# Altium schematic symbol library CUBIC_FC.SchLib: 143 symbols (part 8 of 8)
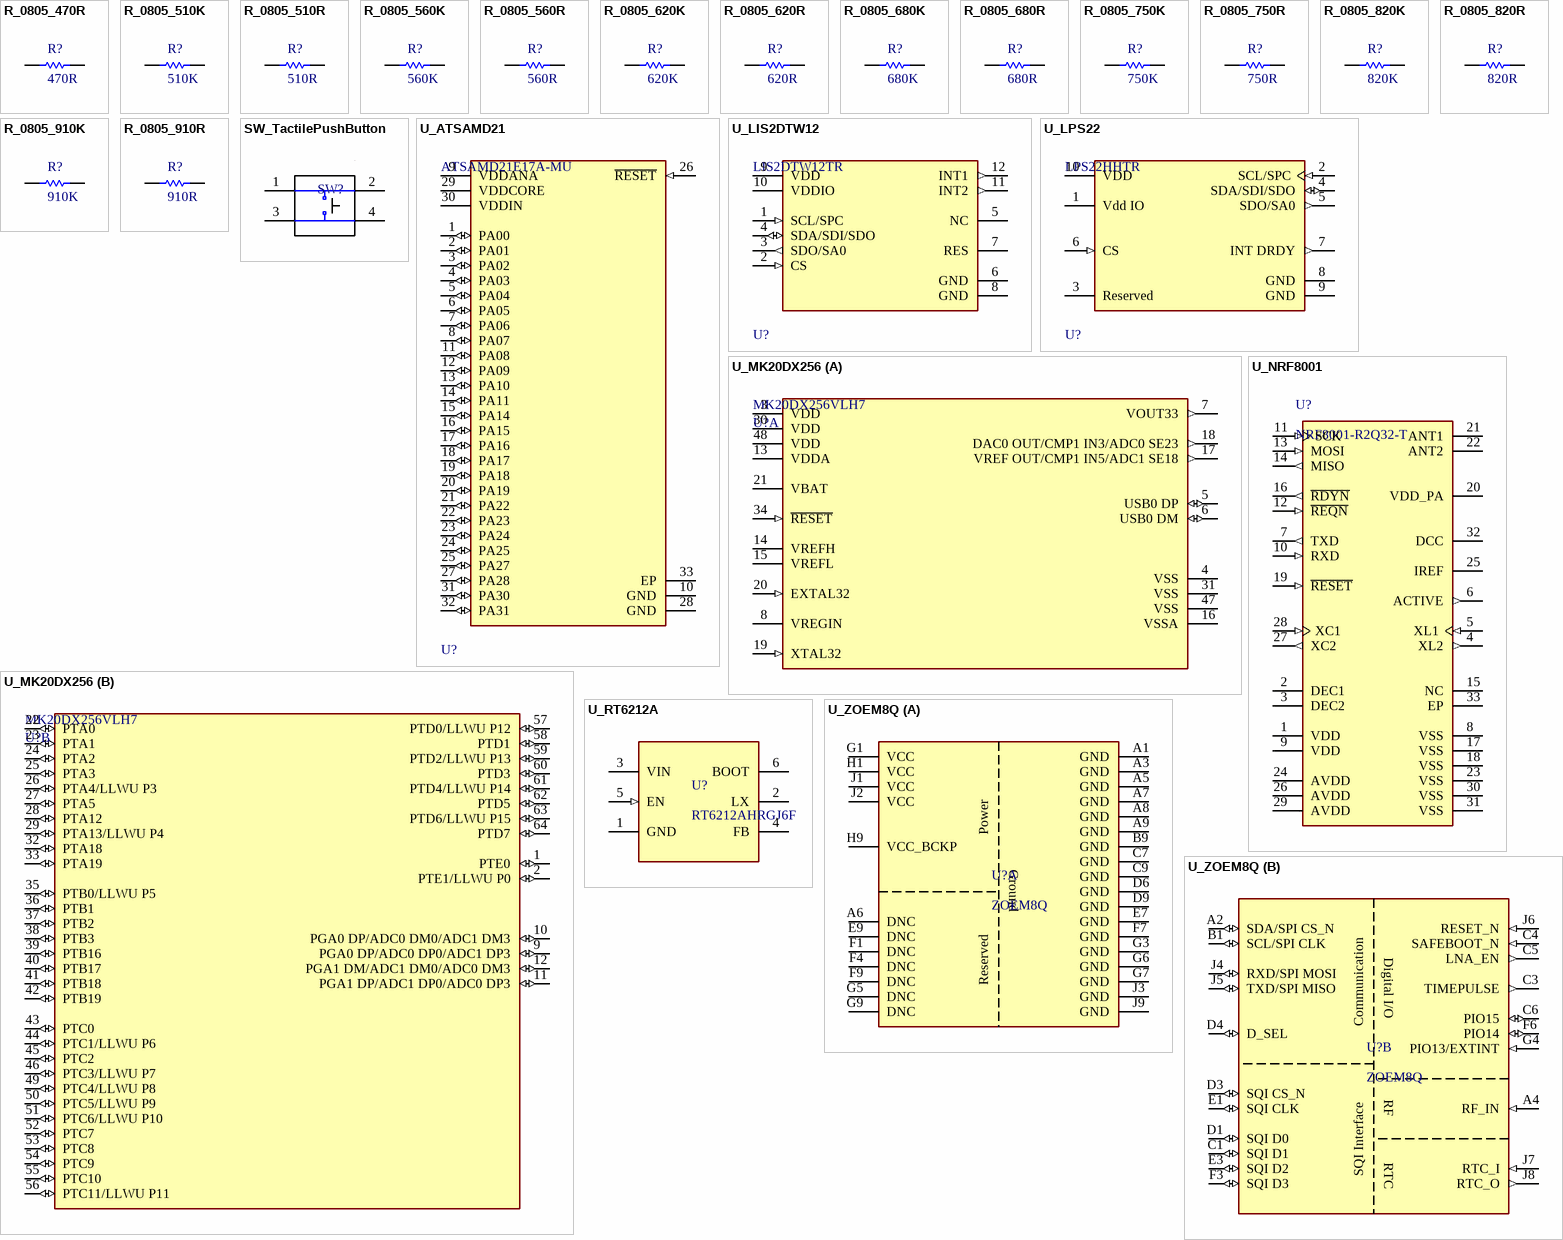
[diagram p10: symbols R_0805_470R to U_ZOEM8Q]

## R_0805_820R
designator R?, comment 820R
Fixed Resistor, Metal Glaze/thick Film, 0.125W, 820ohm, 150V, 1% +/-Tol, 100ppm/Cel, Surface Mount, 0805; Manufacturer: Panasonic; Manufacturer Part Number: ERJ-6ENF8200V; Power: 125mW; Rated Temperature: 70°C; Temperature Coefficient: 100ppm/°C; Package Height: 0.6mm; Package Length: 2mm; Package Width: 1.25mm; Reference Standard: AEC-Q200; Supplier: Digikey; Supplier Part Number: P820CCT-ND; RoHS: Yes; Category: Chip SMD Resistors; Stock: 90683; Pricing: 1=0.11, 10=0.053, 50=0.0344, 100=0.0292, 500=0.02058, 1000=0.01792 (USD); Mounting Technology: Surface Mount; Pins: 2; Package Shape: Rectangular; Case/Package: 0805; Terminal Finish: Nickel; Min Operating Temperature: -55°C; Max Operating Temperature: 155°C; Tolerance: 1%; JESD-609 Code: e3; Resistor Type: FIXED RESISTOR; Construction: Rectangular; Package Style: SMTMeter; Packaging: Tape and Reel; Value: 820R; Technology: METAL GLAZE/THICK FILM; Termination: Wraparound; Working Voltage: 150V; Reach SVHC Compliant: Yes; RoHS Compliant: Yes; ComponentLink1URL: https://datasheet.ciiva.com:443/pdfs/VipMasterIC/IC/PANA/PANA-S-A0009889626/PANA-S-A0009889626-1.pdf?src-supplier=IHS+Markit; ComponentLink1Description: https://datasheet.ciiva.com:443/pdfs/VipMasterIC/IC/PANA/PANA-S-A0009889626/PANA-S-A0009889626-1.pdf?src-supplier=IHS+Markit; ComponentLink2URL: https://datasheet.ciiva.com/9179/aoa0000ce2-9179833.pdf?src-supplier=Avnet; ComponentLink2Description: https://datasheet.ciiva.com/9179/aoa0000ce2-9179833.pdf?src-supplier=Avnet; ComponentLink3URL: https://datasheet.ciiva.com/24158/aoa0000ce2-24158799.pdf?src-supplier=Mouser; ComponentLink3Description: https://datasheet.ciiva.com/24158/aoa0000ce2-24158799.pdf?src-supplier=Mouser; ComponentLink4URL: https://datasheet.ciiva.com/16763/70260748-16763708.pdf?src-supplier=Allied+Electronics; ComponentLink4Description: https://datasheet.ciiva.com/16763/70260748-16763708.pdf?src-supplier=Allied+Electronics; ComponentLink5URL: https://datasheet.ciiva.com/22744/426256-22744189.pdf?src-supplier=Element14; ComponentLink5Description: https://datasheet.ciiva.com/22744/426256-22744189.pdf?src-supplier=Element14; ComponentLink6URL: https://datasheet.ciiva.com/46373/1678782-46373509.pdf?src-supplier=Element14; ComponentLink6Description: https://datasheet.ciiva.com/46373/1678782-46373509.pdf?src-supplier=Element14; ComponentLink7URL: https://datasheet.ciiva.com/46373/1678782-46373510.pdf?src-supplier=Element14; ComponentLink7Description: https://datasheet.ciiva.com/46373/1678782-46373510.pdf?src-supplier=Element14; ComponentLink8URL: https://datasheet.ciiva.com/30130/aoa0000ce2-30130843.pdf?src-supplier=Onlinecomponents.com; ComponentLink8Description: https://datasheet.ciiva.com/30130/aoa0000ce2-30130843.pdf?src-supplier=Onlinecomponents.com; ComponentLink9URL: https://datasheet.ciiva.com/22687/1678782-22687397.pdf?src-supplier=Element14; ComponentLink9Description: https://datasheet.ciiva.com/22687/1678782-22687397.pdf?src-supplier=Element14
footprint R_0805 (Chip Resistor, 2-Leads, Body 2.00x1.25mm, IPC Low Density)
pins: 1, 2

## R_0805_910K
designator R?, comment 910K
Fixed Resistor, Metal Glaze/thick Film, 0.125W, 910000ohm, 150V, 1% +/-Tol, 100ppm/Cel, Surface Mount, 0805; Manufacturer: Panasonic; Manufacturer Part Number: ERJ-6ENF9103V; Power: 125mW; Rated Temperature: 70°C; Value: 910kR; Temperature Coefficient: 100ppm/°C; Package Height: 0.6mm; Package Length: 2mm; Package Width: 1.25mm; Reference Standard: AEC-Q200; Supplier: Digikey; Supplier Part Number: P910KCCT-ND; RoHS: Yes; Category: Chip SMD Resistors; Stock: 97788; Pricing: 1=0.11, 10=0.053, 50=0.0344, 100=0.0292, 500=0.02058, 1000=0.01792 (USD); Mounting Technology: Surface Mount; Pins: 2; Package Shape: Rectangular; Case/Package: 0805; Terminal Finish: Nickel; Min Operating Temperature: -55°C; Max Operating Temperature: 155°C; Tolerance: 1%; JESD-609 Code: e3; Resistor Type: FIXED RESISTOR; Construction: Rectangular; Package Style: SMTMeter; Packaging: Tape and Reel; Technology: METAL GLAZE/THICK FILM; Termination: Wraparound; Working Voltage: 150V; Reach SVHC Compliant: Yes; RoHS Compliant: Yes; ComponentLink1URL: https://datasheet.ciiva.com:443/pdfs/VipMasterIC/IC/PANA/PANA-S-A0009889626/PANA-S-A0009889626-1.pdf?src-supplier=IHS+Markit; ComponentLink1Description: https://datasheet.ciiva.com:443/pdfs/VipMasterIC/IC/PANA/PANA-S-A0009889626/PANA-S-A0009889626-1.pdf?src-supplier=IHS+Markit; ComponentLink2URL: https://datasheet.ciiva.com/22738/1678782-22738869.pdf?src-supplier=Farnell; ComponentLink2Description: https://datasheet.ciiva.com/22738/1678782-22738869.pdf?src-supplier=Farnell; ComponentLink3URL: https://datasheet.ciiva.com/9179/aoa0000ce2-9179549.pdf?src-supplier=Avnet; ComponentLink3Description: https://datasheet.ciiva.com/9179/aoa0000ce2-9179549.pdf?src-supplier=Avnet; ComponentLink4URL: https://datasheet.ciiva.com/22668/1678782-22668024.pdf?src-supplier=Element14; ComponentLink4Description: https://datasheet.ciiva.com/22668/1678782-22668024.pdf?src-supplier=Element14; ComponentLink5URL: https://datasheet.ciiva.com/24160/aoa0000ce2-24160568.pdf?src-supplier=Mouser; ComponentLink5Description: https://datasheet.ciiva.com/24160/aoa0000ce2-24160568.pdf?src-supplier=Mouser
footprint R_0805 (Chip Resistor, 2-Leads, Body 2.00x1.25mm, IPC Low Density)
pins: 1, 2

## R_0805_910R
designator R?, comment 910R
Fixed Resistor, Metal Glaze/thick Film, 0.125W, 910ohm, 150V, 1% +/-Tol, 100ppm/Cel, Surface Mount, 0805; Manufacturer: Panasonic; Manufacturer Part Number: ERJ-6ENF9100V; Power: 125mW; Rated Temperature: 70°C; Temperature Coefficient: 100ppm/°C; Package Height: 0.6mm; Package Length: 2mm; Package Width: 1.25mm; Reference Standard: AEC-Q200; Supplier: Digikey; Supplier Part Number: P910CCT-ND; RoHS: Yes; Category: Chip SMD Resistors; Stock: 54065; Pricing: 1=0.11, 10=0.053, 50=0.0344, 100=0.0292, 500=0.02058, 1000=0.01792 (USD); Mounting Technology: Surface Mount; Pins: 2; Package Shape: Rectangular; Case/Package: 0805; Terminal Finish: Nickel; Min Operating Temperature: -55°C; Max Operating Temperature: 155°C; Tolerance: 1%; JESD-609 Code: e3; Resistor Type: FIXED RESISTOR; Construction: Rectangular; Package Style: SMTMeter; Packaging: Tape and Reel; Value: 910R; Technology: METAL GLAZE/THICK FILM; Termination: Wraparound; Working Voltage: 150V; Reach SVHC Compliant: Yes; RoHS Compliant: Yes; ComponentLink1URL: https://datasheet.ciiva.com:443/pdfs/VipMasterIC/IC/PANA/PANA-S-A0009889626/PANA-S-A0009889626-1.pdf?src-supplier=IHS+Markit; ComponentLink1Description: https://datasheet.ciiva.com:443/pdfs/VipMasterIC/IC/PANA/PANA-S-A0009889626/PANA-S-A0009889626-1.pdf?src-supplier=IHS+Markit; ComponentLink2URL: https://datasheet.ciiva.com/11821/0900766b80f80784-11821703.pdf?src-supplier=Rs; ComponentLink2Description: https://datasheet.ciiva.com/11821/0900766b80f80784-11821703.pdf?src-supplier=Rs; ComponentLink3URL: https://datasheet.ciiva.com/22681/1678782-22681206.pdf?src-supplier=Element14; ComponentLink3Description: https://datasheet.ciiva.com/22681/1678782-22681206.pdf?src-supplier=Element14; ComponentLink4URL: https://datasheet.ciiva.com/24071/aoa0000ce2-24071803.pdf?src-supplier=Mouser; ComponentLink4Description: https://datasheet.ciiva.com/24071/aoa0000ce2-24071803.pdf?src-supplier=Mouser; ComponentLink5URL: https://datasheet.ciiva.com/46373/1678782-46373641.pdf?src-supplier=Element14; ComponentLink5Description: https://datasheet.ciiva.com/46373/1678782-46373641.pdf?src-supplier=Element14; ComponentLink6URL: https://datasheet.ciiva.com/46373/1678782-46373642.pdf?src-supplier=Element14; ComponentLink6Description: https://datasheet.ciiva.com/46373/1678782-46373642.pdf?src-supplier=Element14
pins: 1, 2

## SW_TactilePushButton
designator SW?  (value not drawn)
6 x 6 mm, 4.3 ~ 17 mm Actuator Height, 100 ~ 260 gf, Through Hole, SPST, Tactile Switch; Manufacturer: CUI Devices; Manufacturer Part Number: TS02-66-60-BK-100-LCR-D; Supplier: Digikey; Supplier Part Number: 2223-TS02-66-60-BK-100-LCR-D-ND; RoHS: No; Category: Tactile Switches; Stock: 3824; Pricing: 1=0.1, 10=0.097, 25=0.0916, 100=0.0833, 250=0.07832, 500=0.07166, 1000=0.05999, 2500=0.05833, 5000=0.05499 (USD)
footprint SW_Tactile (Tactile, 4-pin pushbutton w/ through hole leads)
pins: 1, 2, 3, 4

## U_ATSAMD21
designator U?, comment ATSAMD21E17A-MU
IC MCU 32BIT 128KB FLASH 32QFN; Frequency: 48MHz; Core Architecture: ARM; Peripherals: Brown-out Detect/Reset; Number of I/Os: 26; Oscillator Type: Internal; Interface: I2C; Case/Package: QFN; Series: SAM D21E; Memory Type: FLASH; RoHS Compliant: Yes; Mount: Surface Mount; Max Operating Temperature: 85°C; Min Operating Temperature: -40°C; Memory Size: 128KB; Packaging: Tray
footprint U_ATSAMD21 (32-pin QFN)
pins: 1 PA00 (io), 2 PA01 (io), 3 PA02 (io), 4 PA03 (io), 5 PA04 (io), 6 PA05 (io), 7 PA06 (io), 8 PA07 (io), 9 VDDANA (power), 10 GND (power), 11 PA08 (io), 12 PA09 (io), 13 PA10 (io), 14 PA11 (io), 15 PA14 (io), 16 PA15 (io), 17 PA16 (io), 18 PA17 (io), 19 PA18 (io), 20 PA19 (io), 21 PA22 (io), 22 PA23 (io), 23 PA24 (io), 24 PA25 (io), 25 PA27 (io), 26 ~{RESET} (in), 27 PA28 (io), 28 GND (power), 29 VDDCORE (power), 30 VDDIN (power), 31 PA30 (io), 32 PA31 (io), 33 EP

## U_LIS2DTW12
designator U?, comment LIS2DTW12TR
MEMS DIGITAL OUTPUT DUAL MOTION ACCELEROMETER
footprint U_LIS2DTW12 (12-pin WFLGA)
pins: 1 SCL/SPC (in), 2 CS (in), 3 SDO/SA0 (out), 4 SDA/SDI/SDO (io), 5 NC, 6 GND (power), 7 RES, 8 GND (power), 9 VDD (power), 10 VDDIO (power), 11 INT2 (out), 12 INT1 (out)

## U_LPS22
designator U?, comment LPS22HHTR
Pressure Sensor 3.77PSI ~ 18.27PSI (26kPa ~ 126kPa) Absolute 24 b 10-WFLGA; Manufacturer: STMicroelectronics; Operating Supply Current: 4-12uA; Sensor Output: I2C,SPI; Port Style: No Port; Min Supply Voltage: 1.7V; Max Supply Voltage: 3.7V; Package: HLGA-10L-DM00386636; Temperature Range Low: -40°C; RoHS: TRUE; Device Class L1: Sensors; Automotive: No; Manufacturer Part Number: LPS22HHTR; ComponentLink2URL: https://www.st.com/resource/en/datasheet/lps22hh.pdf; Temperature: -40°C to +85°C; Category: IC; Device Class L3: unset; ComponentLink2Description: Datasheet; Lead Free: Yes; Temperature Range High: +85°C; Octopart: https://octopart.com/lps22hhtr-stmicroelectronics-94834025; Footprint Url: https://www.st.com/content/ccc/resource/technical/document/technical_note/73/17/9c/16/dd/96/4a/01/CD00134799.pdf/files/CD00134799.pdf/jcr:content/translations/en.CD00134799.pdf; Height: 0.8mm; Device Class L2: Pressure Sensors; Digikey Description: CONSUMER MEMS
footprint U_LPS22HHTR (10-pin WFLGA 2.0x2.0mm)
pins: 1 Vdd IO (power), 2 SCL/SPC (in), 3 Reserved, 4 SDA/SDI/SDO (io), 5 SDO/SA0 (out), 6 CS (in), 7 INT DRDY (out), 8 GND (power), 9 GND (power), 10 VDD (power)

## U_MK20DX256
designator U?, comment MK20DX256VLH7
IC MCU 32BIT 256KB FLASH 64LQFP; Oscillator Type: Internal; Watchdog Timer: Yes; Peripherals: POR; RAM Size: 64KB; Number of I2C Channels: 2; Max Supply Voltage: 3.6V; Interface: I2C; Frequency: 72MHz; Number of UART Channels: 3; Number of PWM Channels: 8; Number of Timers/Counters: 14; Min Supply Voltage: 1.71V; Data Bus Width: 32b; Number of I/Os: 40; Number of USB Channels: 1; Core Architecture: ARM; Radiation Hardening: No; Case/Package: LQFP; Package Quantity: 160; Halogen Free: Halogen Free; Memory Type: FLASH; Contact Plating: Tin; Number of ADC Channels: 2; Width: 10mm; Packaging: Tray; Max Operating Temperature: 105°C; Min Operating Temperature: -40°C; Mount: Surface Mount; Length: 10mm; Number of Pins: 64; Height: 1.6mm; Memory Size: 256KB; Max Frequency: 72MHz; Weight: 0.012224oz; REACH SVHC: No SVHC; Number of SPI Channels: 1; Lead Free: Lead Free
footprint U_MK20DX256 (64-pin LQFP)
part A pins: 3 VDD (power), 4 VSS (power), 5 USB0 DP (io), 6 USB0 DM (io), 7 VOUT33 (out), 8 VREGIN (power), 13 VDDA (power), 14 VREFH (power), 15 VREFL (power), 16 VSSA (power), 17 VREF OUT/CMP1 IN5/ADC1 SE18 (out), 18 DAC0 OUT/CMP1 IN3/ADC0 SE23 (out), 19 XTAL32 (in), 20 EXTAL32 (in), 21 VBAT (power), 30 VDD (power), 31 VSS (power), 34 ~{RESET} (in), 47 VSS (power), 48 VDD (power)
part B pins: 1 PTE0 (io), 2 PTE1/LLWU P0 (io), 9 PGA0 DP/ADC0 DP0/ADC1 DP3 (io), 10 PGA0 DP/ADC0 DM0/ADC1 DM3 (io), 11 PGA1 DP/ADC1 DP0/ADC0 DP3 (io), 12 PGA1 DM/ADC1 DM0/ADC0 DM3 (io), 22 PTA0 (io), 23 PTA1 (io), 24 PTA2 (io), 25 PTA3 (io), 26 PTA4/LLWU P3 (io), 27 PTA5 (io), 28 PTA12 (io), 29 PTA13/LLWU P4 (io), 32 PTA18 (io), 33 PTA19 (io), 35 PTB0/LLWU P5 (io), 36 PTB1 (io), 37 PTB2 (io), 38 PTB3 (io), 39 PTB16 (io), 40 PTB17 (io), 41 PTB18 (io), 42 PTB19 (io), 43 PTC0 (io), 44 PTC1/LLWU P6 (io), 45 PTC2 (io), 46 PTC3/LLWU P7 (io), 49 PTC4/LLWU P8 (io), 50 PTC5/LLWU P9 (io), 51 PTC6/LLWU P10 (io), 52 PTC7 (io), 53 PTC8 (io), 54 PTC9 (io), 55 PTC10 (io), 56 PTC11/LLWU P11 (io), 57 PTD0/LLWU P12 (io), 58 PTD1 (io), 59 PTD2/LLWU P13 (io), 60 PTD3 (io), 61 PTD4/LLWU P14 (io), 62 PTD5 (io), 63 PTD6/LLWU P15 (io), 64 PTD7 (io)

## U_NRF8001
designator U?, comment NRF8001-R2Q32-T
Single-Chip Bluetooth(R) Low Energy Solution, 1.9 to 3.6 V, -40 to 85 degC, 32-Pin QFN, RoHS, Tray; Voltage Rating: 50 V; Case\Package: Radial; Capacitance: 22 uF; Tolerance: 20%; Min Operating Temperature: -40 degC; Lead Pitch: 2 mm; ComponentLink1Description: Manufacturer URL; Height: 11 mm; Packaging: Bulk; Length: 11 mm; Radiation Hardening: No; Max Operating Temperature: 85 degC; REACH SVHC: No SVHC; ComponentLink2Description: Datasheet; Diameter: 5 mm; Package Quantity: 200; DatasheetVersion: Rev. 1.1, 10/2012; RoHSCompliant: true; Pins: 2; ComponentLink2URL: https://infocenter.nordicsemi.com/pdf/nRF8001_PS_v1.3.pdf; PackageReference: QFN-32; ComponentLink1URL: http://www.nordicsemi.com/eng/Products/; Mount: Through Hole; Voltage Rating (DC): 50 V; PackageDescription: 32-Pin Quad Flat No-lead Package, Body 5 x 5 mm, Pitch 0.5 mm
footprint U_NRF8001 (32-Leads, Body 5.1x5.1mm, Pitch 0.50mm, Thermal Pad 3.6x3.6mm, IPC Low Density)
pins: 1 VDD (power) "Power supply (1.9 - 3.6V)", 2 DEC1 (power) "Regulated power supply output for decoupling purposes only.", 3 DEC2 (power) "Regulated power supply output for decoupling purposes only.", 4 XL2 (out) "Connect to 32.768 kHz crystal oscillator.", 5 XL1 (in) "Connect to 32.768 kHz crystal oscillator or external 32.768 kHz clock reference.", 6 ACTIVE (out) "Device RF front end activity indicator.", 7 TXD (out) "UART (transmit) for Bluetooth low energy Direct Test Interface.", 8 VSS (power) "Ground (0V)", 9 VDD (power) "Power supply (1.9 - 3.6V)", 10 RXD (in) "UART (receive) for Bluetooth low energy Direct Test Interface.", 11 SCK (in) "ACI clock input.", 12 ~{REQN} (in) "ACI request pin (handshaking, active low).", 13 MOSI (in) "ACI Master Out Slave In.", 14 MISO (out) "ACI Master In Slave Out.", 15 NC "Not connected.", 16 ~{RDYN} (out) "ACI device ready indication (handshaking, active low).", 17 VSS (power) "Ground (0V)", 18 VSS (power) "Ground (0V)", 19 ~{RESET} (in) "Reset (active low)", 20 VDD_PA (power) "Regulated power supply output for on-chip RF Power amplifier.", 21 ANT1 "Differential antenna connection (TX and RX)", 22 ANT2 "Differential antenna connection (TX and RX)", 23 VSS (power) "Ground (0V)", 24 AVDD (power) "Analog power supply (1.9 - 3.6V DC)", 25 IREF "Current reference terminal.", 26 AVDD (power) "Analog power supply (1.9 - 3.6V)", 27 XC2 (out) "Connection for 16 MHz crystal oscillator.", 28 XC1 (in) "Connection for 16 MHz crystal or external 16MHz reference.", 29 AVDD (power) "Analog power supply (1.9 - 3.6V DC)", 30 VSS (power) "Ground (0V)", 31 VSS (power) "Ground (0V)", 32 DCC (power) "Pulse Width Modulated (PWM) driver for the external LC filter if the DC/DC converter is enable.", 33 EP (power) "Ground (0V)"

## U_RT6212A
designator U?, comment RT6212AHRGJ6F
Buck Switching Regulator IC Positive Adjustable 0.765V 1 Output 2A SOT-23-6 Thin, TSOT-23-6; Manufacturer: Richtek; Supplier: Digikey; Supplier Part Number: 1028-RT6212AHRGJ6FCT-ND; Manufacturer Part Number: RT6212AHRGJ6F; RoHS: No; Category: Voltage Regulators - Switching; Stock: 2785; Pricing: 1=0.83, 10=0.733, 25=0.6888, 100=0.5622, 250=0.52216, 500=0.4444, 1000=0.35552 (USD)
footprint U_RT6212A (SOT23, 6-Leads, Body 2.90x2.80mm, Pitch 0.95mm, IPC Medium Density)
pins: 1 GND (power), 2 LX, 3 VIN (power), 4 FB, 5 EN (in), 6 BOOT

## U_ZOEM8Q
designator U?, comment ZOEM8Q
U-Blox M8 Concurrent GNSS S-LGA 3.0 V SiP, TCXO, ROM, 4.5x4.5 mm, 1000 pcs/reel; Manufacturer Part Number: ZOE-M8Q-0; Supplier: Digikey; Supplier Part Number: 672-ZOE-M8Q-0CT-ND; Manufacturer: u-blox; RoHS: Yes; Category: RF Receivers, Transceivers; Stock: 5600; Pricing: 1=29, 100=14.7 (USD); ComponentLink1URL: https://datasheet.octopart.com/ZOE-M8Q-0-u-blox-datasheet-165471867.pdf?src-supplier=Future+Electronics; ComponentLink1Description: https://datasheet.octopart.com/ZOE-M8Q-0-u-blox-datasheet-165471867.pdf?src-supplier=Future+Electronics
footprint U_ZOE_M8 (LGA, 51-Leads, Body 4.50x4.50mmx1.10mm, Pitch 0.50mm)
part A pins: A1 GND (power), A3 GND (power), A5 GND (power), A6 DNC, A7 GND (power), A8 GND (power), A9 GND (power), B9 GND (power), C7 GND (power), C9 GND (power), D6 GND (power), D9 GND (power), E7 GND (power), E9 DNC, F1 DNC, F4 DNC, F7 GND (power), F9 DNC, G1 VCC (power), G3 GND (power), G5 DNC, G6 GND (power), G7 GND (power), G9 DNC, H1 VCC (power), H9 VCC_BCKP (power), J1 VCC (power), J2 VCC (power), J3 GND (power), J9 GND (power)
part B pins: A2 SDA/SPI CS_N (io), A4 RF_IN (in), B1 SCL/SPI CLK (io), C1 SQI D1 (io), C3 TIMEPULSE (out), C4 SAFEBOOT_N (in), C5 LNA_EN (out), C6 PIO15 (io), D1 SQI D0 (io), D3 SQI CS_N (io), D4 D_SEL (io), E1 SQI CLK (io), E3 SQI D2 (io), F3 SQI D3 (io), F6 PIO14 (io), G4 PIO13/EXTINT (in), J4 RXD/SPI MOSI (io), J5 TXD/SPI MISO (io), J6 RESET_N (in), J7 RTC_I (in), J8 RTC_O (out)
part A text: Power; Ground; Reserved
part B text: Communication; Digital I/O; RF; SQI Interface; RTC